# Altium schematic symbol library MCU.SchLib: 10 symbols
Pins are listed as number, name and electrical type; pins without a type are passive.

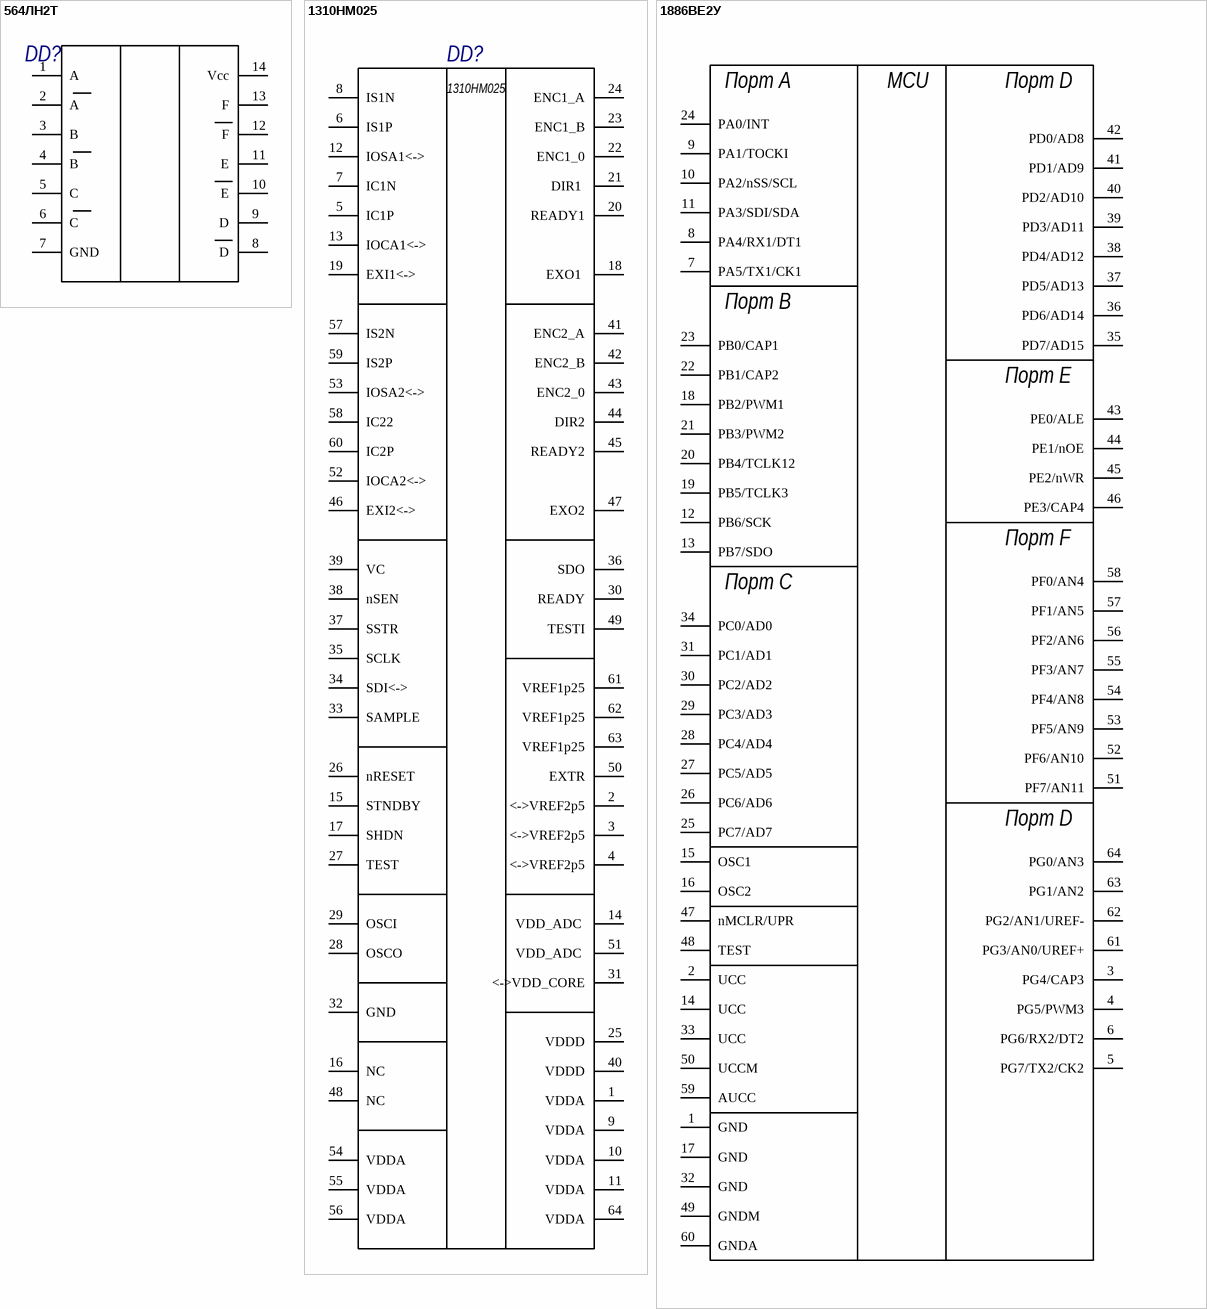
[diagram p0: symbols 564ЛН2Т to 1886ВЕ2У]

## 564ЛН2Т
designator DD?  (value not drawn)
footprint 401.14-5 (SOIC, 16-Leads, Body 9.9x3.9mm, Pitch 1.27mm, IPC Low Density)
pins: 1 A, 2 A, 3 B, 4 B, 5 C, 6 C, 7 GND, 8 D, 9 D, 10 E, 11 E, 12 F, 13 F, 14 Vcc

## 1310НМ025
designator DD?
Part: R 0805 ±1%; Cat: Резистор; Name: NULL; Power: 0,125 Вт; Tolerance: ±1%; Bill: Резистор NULL-0,125 Вт-NULL±1%; Com: R0805 0,125 Вт NULL ±1%; Package: R0805; Nominal: NULL
pins: 1 VDDA, 2 <->VREF2p5, 3 <->VREF2p5, 4 <->VREF2p5, 5 IC1P, 6 IS1P, 7 IC1N, 8 IS1N, 9 VDDA, 10 VDDA, 11 VDDA, 12 IOSA1<->, 13 IOCA1<->, 14 VDD_ADC , 15 STNDBY, 16 NC, 17 SHDN, 18 EXO1 , 19 EXI1<->, 20 READY1, 21 DIR1 , 22 ENC1_0, 23 ENC1_B, 24 ENC1_A, 25 VDDD, 26 nRESET, 27 TEST, 28 OSCO, 29 OSCI, 30 READY, 31 <->VDD_CORE, 32 GND, 33 SAMPLE, 34 SDI<->, 35 SCLK, 36 SDO, 37 SSTR, 38 nSEN, 39 VC, 40 VDDD, 41 ENC2_A, 42 ENC2_B, 43 ENC2_0, 44 DIR2, 45 READY2, 46 EXI2<->, 47 EXO2, 48 NC, 49 TESTI, 50 EXTR, 51 VDD_ADC , 52 IOCA2<->, 53 IOSA2<->, 54 VDDA, 55 VDDA, 56 VDDA, 57 IS2N, 58 IC22, 59 IS2P, 60 IC2P, 61 VREF1p25, 62 VREF1p25, 63 VREF1p25, 64 VDDA

## 1886ВЕ2У
designator R?
Part: R 0805 ±1%; Cat: Резистор; Name: NULL; Power: 0,125 Вт; Tolerance: ±1%; Bill: Резистор NULL-0,125 Вт-NULL±1%; Com: R0805 0,125 Вт NULL ±1%; Package: R0805; Nominal: NULL
pins: 1 GND, 2 UCC, 3 PG4/CAP3, 4 PG5/PWM3, 5 PG7/TX2/CK2, 6 PG6/RX2/DT2, 7 PA5/TX1/CK1 , 8 PA4/RX1/DT1, 9 PA1/TOCKI, 10 PA2/nSS/SCL , 11 PA3/SDI/SDA, 12 PB6/SCK, 13 PB7/SDO, 14 UCC, 15 OSC1, 16 OSC2, 17 GND, 18 PB2/PWM1, 19 PB5/TCLK3, 20 PB4/TCLK12, 21 PB3/PWM2, 22 PB1/CAP2, 23 PB0/CAP1, 24 PA0/INT, 25 PC7/AD7, 26 PC6/AD6, 27 PC5/AD5, 28 PC4/AD4, 29 PC3/AD3, 30 PC2/AD2, 31 PC1/AD1, 32 GND, 33 UCC, 34 PC0/AD0, 35 PD7/AD15, 36 PD6/AD14, 37 PD5/AD13, 38 PD4/AD12, 39 PD3/AD11, 40 PD2/AD10, 41 PD1/AD9, 42 PD0/AD8, 43 PE0/ALE, 44 PE1/nOE, 45 PE2/nWR, 46 PE3/CAP4, 47 nMCLR/UPR, 48 TEST, 49 GNDM, 50 UCCM, 51 PF7/AN11, 52 PF6/AN10, 53 PF5/AN9, 54 PF4/AN8, 55 PF3/AN7, 56 PF2/AN6, 57 PF1/AN5, 58 PF0/AN4, 59 AUCC, 60 GNDA, 61 PG3/AN0/UREF+, 62 PG2/AN1/UREF-, 63 PG1/AN2, 64 PG0/AN3
text: Порт А; MCU; Порт D; Порт B; Порт E; Порт F; Порт C

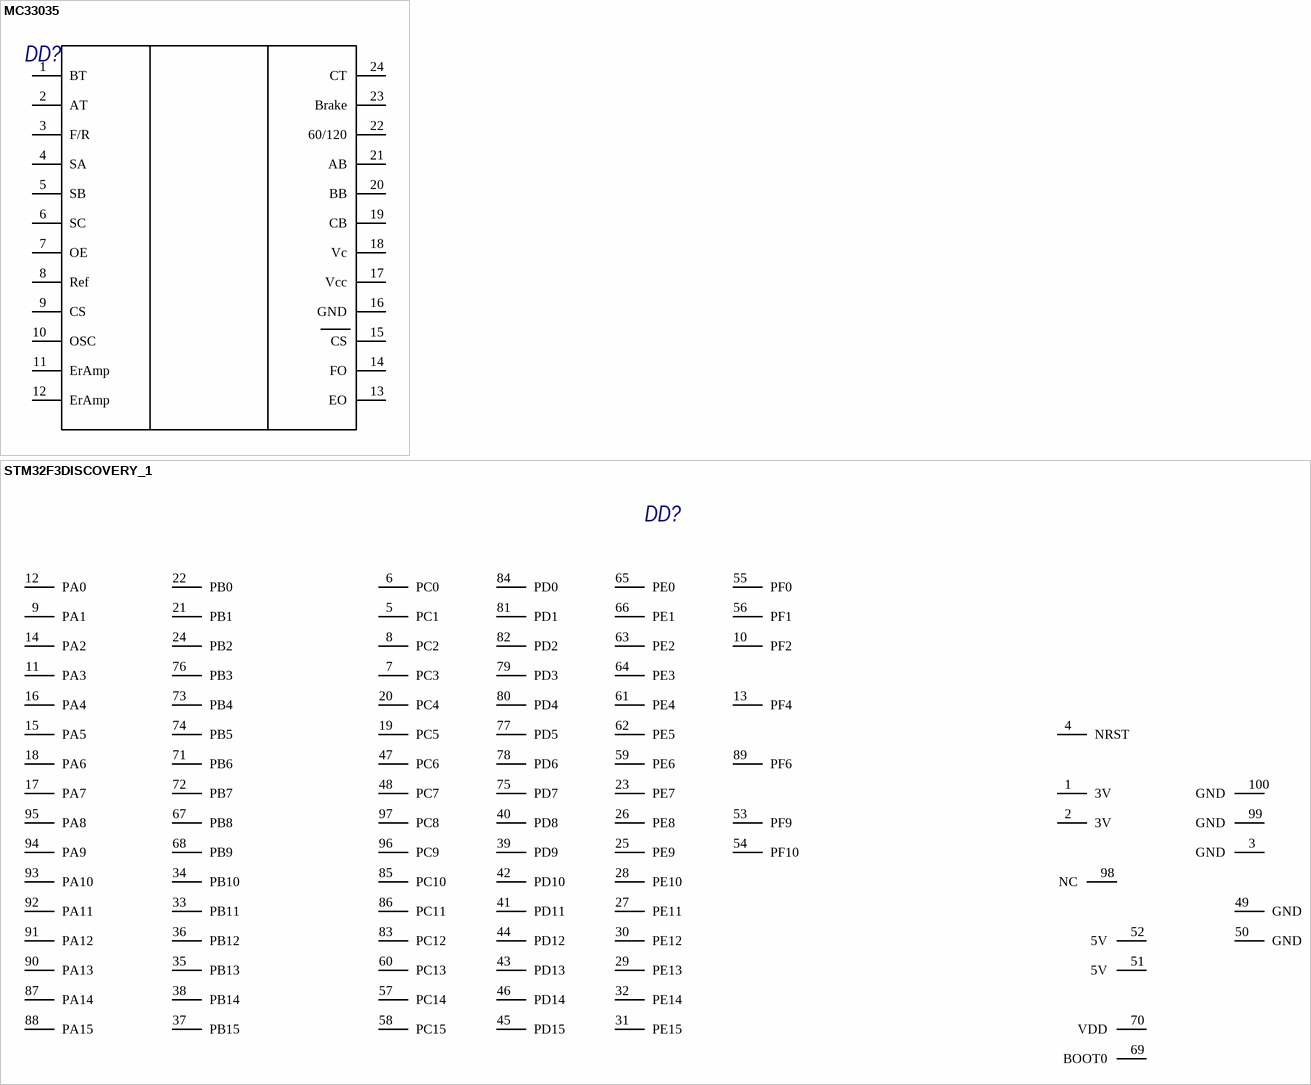
[diagram p1: symbols MC33035 to STM32F3DISCOVERY_1]

## MC33035
designator DD?  (value not drawn)
footprint SOIC24
pins: 1 BT, 2 AT, 3 F/R, 4 SA, 5 SB, 6 SC, 7 OE, 8 Ref, 9 CS, 10 OSC, 11 ErAmp, 12 ErAmp, 13 EO, 14 FO, 15 CS, 16 GND, 17 Vcc, 18 Vc, 19 CB, 20 BB, 21 AB, 22 60/120, 23 Brake, 24 CT

## STM32F3DISCOVERY_1
designator DD?
footprint STM32F103 BluePill
pins: 1 3V, 2 3V, 3 GND, 4 NRST, 5 PC1, 6 PC0, 7 PC3, 8 PC2, 9 PA1, 10 PF2, 11 PA3, 12 PA0, 13 PF4, 14 PA2, 15 PA5, 16 PA4, 17 PA7, 18 PA6, 19 PC5, 20 PC4, 21 PB1, 22 PB0, 23 PE7, 24 PB2, 25 PE9, 26 PE8, 27 PE11, 28 PE10, 29 PE13, 30 PE12, 31 PE15, 32 PE14, 33 PB11, 34 PB10, 35 PB13, 36 PB12, 37 PB15, 38 PB14, 39 PD9, 40 PD8, 41 PD11, 42 PD10, 43 PD13, 44 PD12, 45 PD15, 46 PD14, 47 PC6, 48 PC7, 49 GND, 50 GND, 51 5V, 52 5V, 53 PF9, 54 PF10, 55 PF0, 56 PF1, 57 PC14, 58 PC15, 59 PE6, 60 PC13, 61 PE4, 62 PE5, 63 PE2, 64 PE3, 65 PE0, 66 PE1, 67 PB8, 68 PB9, 69 BOOT0, 70 VDD, 71 PB6, 72 PB7, 73 PB4, 74 PB5, 75 PD7, 76 PB3, 77 PD5, 78 PD6, 79 PD3, 80 PD4, 81 PD1, 82 PD2, 83 PC12, 84 PD0, 85 PC10, 86 PC11, 87 PA14, 88 PA15, 89 PF6, 90 PA13, 91 PA12, 92 PA11, 93 PA10, 94 PA9, 95 PA8, 96 PC9, 97 PC8, 98 NC, 99 GND, 100 GND

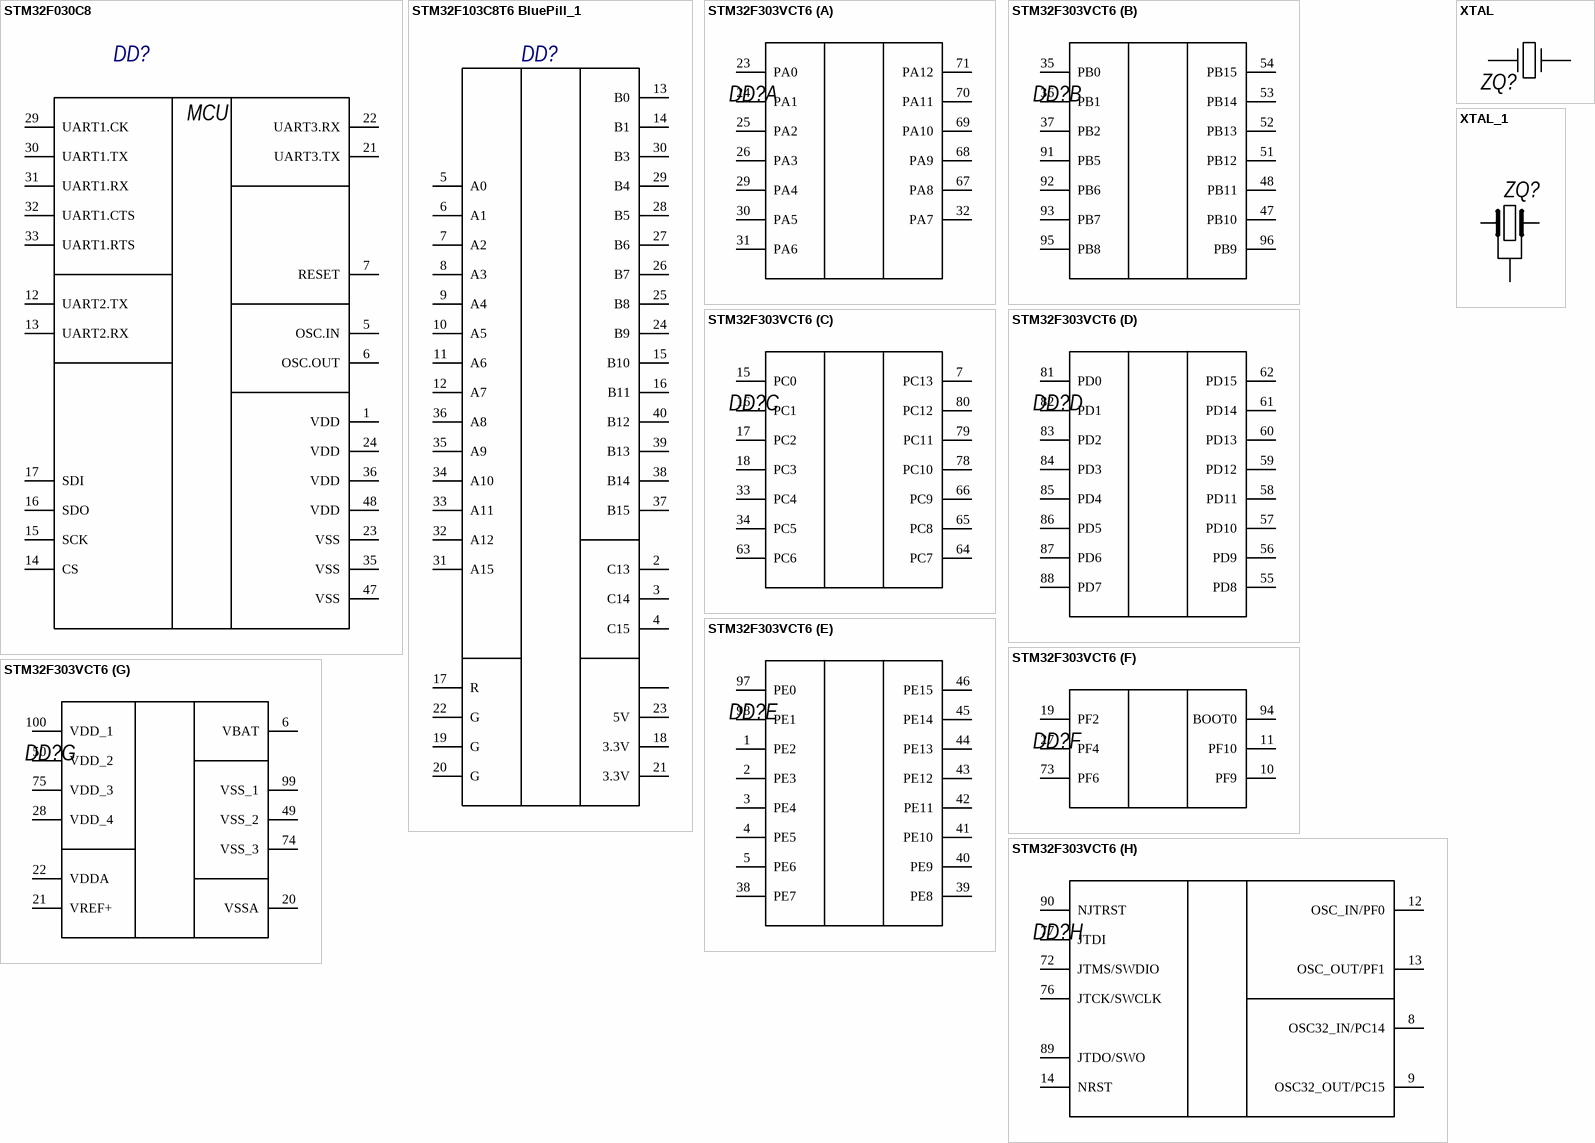
[diagram p2: symbols STM32F030C8 to XTAL_1]

## STM32F030C8
designator DD?
footprint STM32F103 BluePill
pins: 1 VDD, 5 OSC.IN, 6 OSC.OUT, 7 RESET, 12 UART2.TX, 13 UART2.RX, 14 CS, 15 SCK, 16 SDO, 17 SDI, 21 UART3.TX, 22 UART3.RX, 23 VSS, 24 VDD, 29 UART1.CK, 30 UART1.TX, 31 UART1.RX, 32 UART1.CTS, 33 UART1.RTS, 35 VSS, 36 VDD, 47 VSS, 48 VDD
text: MCU

## STM32F103C8T6 BluePill_1
designator DD?
footprint STM32F103 BluePill
pins: 1 VB, 2 C13, 3 C14, 4 C15, 5 A0, 6 A1, 7 A2, 8 A3, 9 A4, 10 A5, 11 A6, 12 A7, 13 B0, 14 B1, 15 B10, 16 B11, 17 R, 18 3.3V, 19 G, 20 G, 21 3.3V, 22 G, 23 5V, 24 B9, 25 B8, 26 B7, 27 B6, 28 B5, 29 B4, 30 B3, 31 A15, 32 A12, 33 A11, 34 A10, 35 A9, 36 A8, 37 B15, 38 B14, 39 B13, 40 B12

## STM32F303VCT6
designator DD?  (value not drawn)
footprint LQFP-100
part A pins: 23 PA0, 24 PA1, 25 PA2, 26 PA3, 29 PA4, 30 PA5, 31 PA6, 32 PA7, 67 PA8, 68 PA9, 69 PA10, 70 PA11, 71 PA12
part B pins: 35 PB0, 36 PB1, 37 PB2, 47 PB10, 48 PB11, 51 PB12, 52 PB13, 53 PB14, 54 PB15, 91 PB5, 92 PB6, 93 PB7, 95 PB8, 96 PB9
part C pins: 7 PC13, 15 PC0, 16 PC1, 17 PC2, 18 PC3, 33 PC4, 34 PC5, 63 PC6, 64 PC7, 65 PC8, 66 PC9, 78 PC10, 79 PC11, 80 PC12
part D pins: 55 PD8, 56 PD9, 57 PD10, 58 PD11, 59 PD12, 60 PD13, 61 PD14, 62 PD15, 81 PD0, 82 PD1, 83 PD2, 84 PD3, 85 PD4, 86 PD5, 87 PD6, 88 PD7
part E pins: 1 PE2, 2 PE3, 3 PE4, 4 PE5, 5 PE6, 38 PE7, 39 PE8, 40 PE9, 41 PE10, 42 PE11, 43 PE12, 44 PE13, 45 PE14, 46 PE15, 97 PE0, 98 PE1
part F pins: 10 PF9, 11 PF10, 19 PF2, 27 PF4, 73 PF6, 94 BOOT0
part G pins: 6 VBAT, 20 VSSA, 21 VREF+, 22 VDDA, 28 VDD_4, 49 VSS_2, 50 VDD_2, 74 VSS_3, 75 VDD_3, 99 VSS_1, 100 VDD_1
part H pins: 8 OSC32_IN/PC14, 9 OSC32_OUT/PC15, 12 OSC_IN/PF0, 13 OSC_OUT/PF1, 14 NRST, 72 JTMS/SWDIO, 76 JTCK/SWCLK, 77 JTDI, 89 JTDO/SWO, 90 NJTRST

## XTAL
designator ZQ?  (value not drawn)
Value: *
pins: 1, 2

## XTAL_1
designator ZQ?  (value not drawn)
Value: *
pins: 1, 2, 3